# Altium footprint library CNT_RP_UFL.PcbLib: 1 footprints
Each footprint in its own frame and in the unit in brackets; x right, y up, seen from the top. Pads: shape width x height; smd on the part's side, far side on the other; paste and mask are expansions set on the pad; w line width, h text height; cw(c..) or ccw(c..) is an arc to the next point about the centre after c.
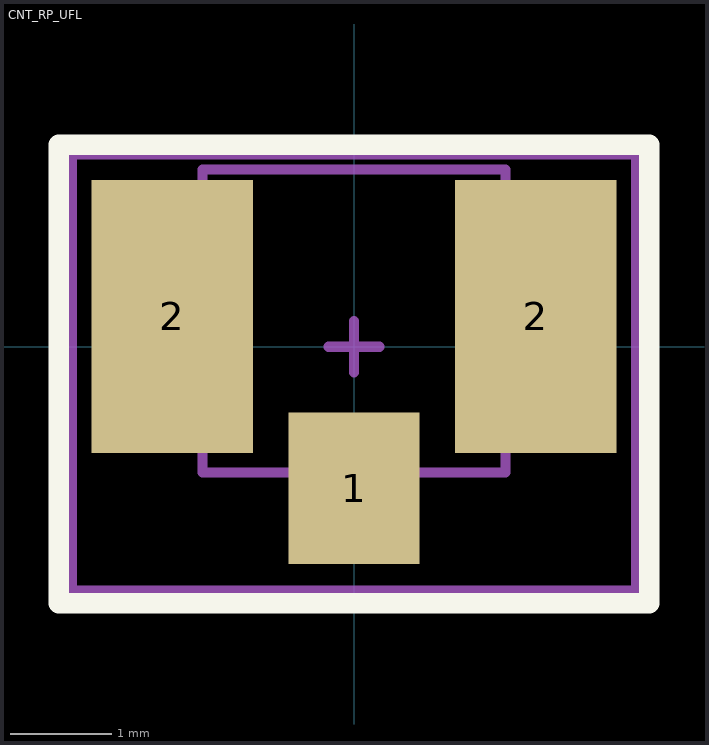
[diagram p0: the footprint, top view; thin cyan lines are the x and y axes]

## CNT_RP_UFL [mm]
pads (3):
  rect 1.3x1.5 smd: 1(0,-1.4)
  rect 1.6x2.7 smd: 2(-1.8,0.3) 2(1.8,0.3)
Top Overlay:
  lines w0.203: -2.921,-2.54 -2.921,2 2.921,2 2.921,-2.54 -2.921,-2.54
Mechanical 1:
  lines w0.1: -1.5,-1.246 -1.5,1.754 1.5,1.754 1.5,-1.246 -1.5,-1.246
  text ".Designator" at 0,0.113 h0.6
Mechanical 15:
  lines w0.1: -0.254,0 0.254,0 ; 0,-0.254 0,0.254 ; -2.794,-2.413 2.794,-2.413 2.794,1.905 -2.794,1.905 -2.794,-2.413
3D body "RECE-20279-001E-01.stp": height 1.34, standoff 0, extent -1.5,-1.246 1.5,1.754